# Altium schematic symbol library SCH - Interface - EHT - WURTH 634008149821.Schlib: 1 symbol
Pins are listed as number, name and electrical type; pins without a type are passive.

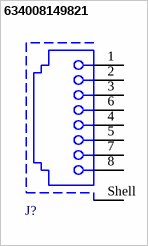
[diagram p0: symbol 634008149821]

## 634008149821
designator J?  (value not drawn)
WR-MJ Modular Jack SMT Horizontal Shielded 8P8C Tab Up; Manufacturer: Wurth Elektronik; Contact Resistance: 20mOhm; Insulation Resistance: 500MOhm; LED: No; Number of Ports: 1; Rated Current: 1.5A; Shielding: Yes; Working Voltage: 120VAC; Withstanding Voltage: 1000VAC; ComponentLink1Description: Manufacturer Link; ComponentLink1URL: https://www.we-online.com/redexpert/article/634008149821?ad; ComponentLink2Description: Datasheet; ComponentLink2URL: https://www.we-online.com/redexpert/spec/634008149821?ad; Category: Input/Output Connectors; Match Code: WR-MJ; Manufacturer Part Number: 634008149821; Mount: Surface Mount; Operating Temperature Max: 85°C; Operating Temperature Min: -40°C; Packaging: Tray; Number of Pins: 8P8C; Orientation: Horizontal
footprint 634008149821
pins: 1, 2, 3, 4, 5, 6, 7, 8, Shell